# Altium schematic symbol library SnapEDAsch.SchLib: 1 symbol
Pins are listed as number, name and electrical type; pins without a type are passive.

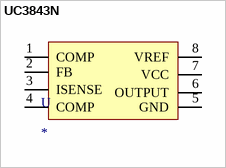
[diagram p0: symbol UC3843N]

## UC3843N
designator U
Boost, Buck, Buck-Boost, Flyback, Forward Regulator Positive Output Step-Up, Step-Down, Step-Up/Step-Down DC-DC Controller IC 8-PDIP; MF: ON Semiconductor; MP: UC3843N; Package: PDIP-8 Texas Instruments; Price: None; SnapEDA_Link: https://www.snapeda.com/parts/UC3843N/ON%20Semiconductor/view-part/366318/?ref=snap; Availability: Unavailable; Value: *
footprint DIP254P762X508-8
pins: 1 COMP, 2 FB, 3 ISENSE, 4 COMP, 5 GND, 6 OUTPUT, 7 VCC, 8 VREF